# EAGLE library part PIN10 (library C8051F300)
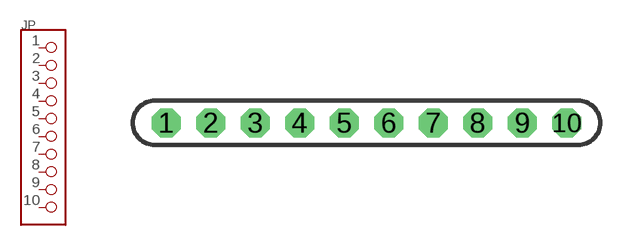
[diagram p27: symbol with the pads of PIN10; footprint PIN10]

Designator prefix JP

## PIN10  [PIN10]
1  1
2  2
3  3
4  4
5  5
6  6
7  7
8  8
9  9
10  10

## Footprint PIN10 (pad centres in mm)
drill 1.1 octagon: 1 0,0; 2 2.54,0; 3 5.08,0; 4 7.62,0; 5 10.16,0; 6 12.7,0; 7 15.24,0; 8 17.78,0; 9 20.32,0; 10 22.86,0